# Altium integrated library MP34DT01-M.IntLib: 1 symbol
Pins are listed as number, name and electrical type; pins without a type are passive.

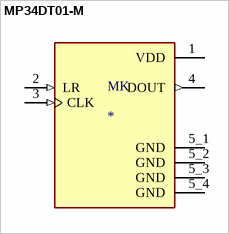
[diagram p0: symbol MP34DT01-M]

## MP34DT01-M
designator MK
MP34DT01-M MEMS Omnidirectional Microphones Audio Evaluation Board; MF: STMicroelectronics; Availability: Unavailable; Package: None; SnapEDA_Link: https://www.snapeda.com/parts/MP34DT01-M/STMicroelectronics/view-part/590970/?ref=snap; Price: None; MP: MP34DT01-M; Value: *
footprint MIC_MP34DT01-M
pins: 1 VDD (power), 2 LR (in), 3 CLK (in), 4 DOUT (out), 5_1 GND (power), 5_2 GND (power), 5_3 GND (power), 5_4 GND (power)